# Altium schematic symbol library TRANS-EN-GDS.SCHLIB: 1 symbol
Pins are listed as number, name and electrical type; pins without a type are passive.

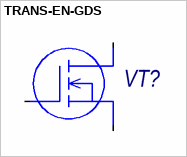
[diagram p0: symbol TRANS-EN-GDS]

## TRANS-EN-GDS
designator VT?
MOSFET
pins: 1 G, 2 D, 3 S